# Altium schematic symbol library SCH - CONNECTORS - USB 2.0 TYPE A STACKED.SCHLIB: 1 symbol
Pins are listed as number, name and electrical type; pins without a type are passive.

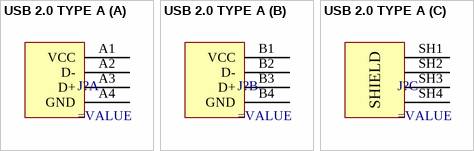
[diagram p0: symbol USB 2.0 TYPE A]

## USB 2.0 TYPE A
designator J?
part A pins: A1 VCC, A2 D-, A3 D+, A4 GND
part B pins: B1 VCC, B2 D-, B3 D+, B4 GND
part C pins: SH1, SH2, SH3, SH4
part C text: SHIELD